# EAGLE library part I-02129_R8C_2AB (library Akizuki)
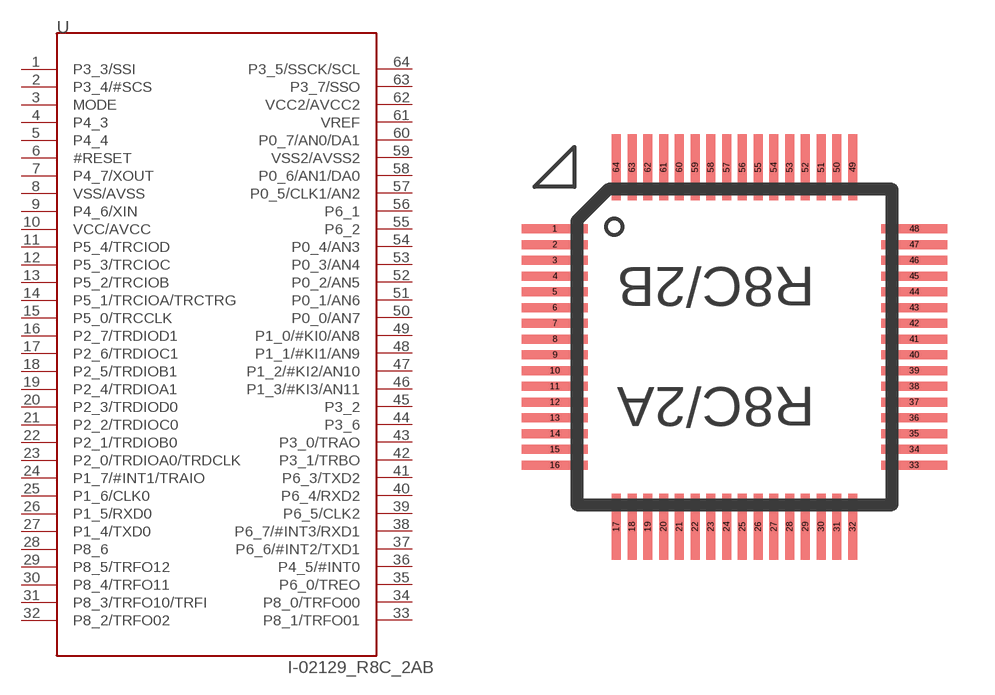
[diagram p14: symbol with the pads of LQFP64; footprint LQFP64]

Designator prefix U

## I-02129_R8C_2AB  [LQFP64]
1  P3_3/SSI
2  P3_4/#SCS
3  MODE
4  P4_3
5  P4_4
6  #RESET
7  P4_7/XOUT
8  VSS/AVSS
9  P4_6/XIN
10  VCC/AVCC
11  P5_4/TRCIOD
12  P5_3/TRCIOC
13  P5_2/TRCIOB
14  P5_1/TRCIOA/TRCTRG
15  P5_0/TRCCLK
16  P2_7/TRDIOD1
17  P2_6/TRDIOC1
18  P2_5/TRDIOB1
19  P2_4/TRDIOA1
20  P2_3/TRDIOD0
21  P2_2/TRDIOC0
22  P2_1/TRDIOB0
23  P2_0/TRDIOA0/TRDCLK
24  P1_7/#INT1/TRAIO
25  P1_6/CLK0
26  P1_5/RXD0
27  P1_4/TXD0
28  P8_6
29  P8_5/TRFO12
30  P8_4/TRFO11
31  P8_3/TRFO10/TRFI
32  P8_2/TRFO02
33  P8_1/TRFO01
34  P8_0/TRFO00
35  P6_0/TREO
36  P4_5/#INT0
37  P6_6/#INT2/TXD1
38  P6_7/#INT3/RXD1
39  P6_5/CLK2
40  P6_4/RXD2
41  P6_3/TXD2
42  P3_1/TRBO
43  P3_0/TRAO
44  P3_6
45  P3_2
46  P1_3/#KI3/AN11
47  P1_2/#KI2/AN10
48  P1_1/#KI1/AN9
49  P1_0/#KI0/AN8
50  P0_0/AN7
51  P0_1/AN6
52  P0_2/AN5
53  P0_3/AN4
54  P0_4/AN3
55  P6_2
56  P6_1
57  P0_5/CLK1/AN2
58  P0_6/AN1/DA0
59  VSS2/AVSS2
60  P0_7/AN0/DA1
61  VREF
62  VCC2/AVCC2
63  P3_7/SSO
64  P3_5/SSCK/SCL

## Footprint LQFP64 (pad centres in mm)
Plastic Low Profile Quad Flat Package
smd 2.1 x 0.285: 1 -5.7,3.75; 2 -5.7,3.25; 3 -5.7,2.75; 4 -5.7,2.25; 5 -5.7,1.75; 6 -5.7,1.25; 7 -5.7,0.75; 8 -5.7,0.25; 9 -5.7,-0.25; 10 -5.7,-0.75; 11 -5.7,-1.25; 12 -5.7,-1.75; 13 -5.7,-2.25; 14 -5.7,-2.75; 15 -5.7,-3.25; 16 -5.7,-3.75; 33 5.7,-3.75; 34 5.7,-3.25; 35 5.7,-2.75; 36 5.7,-2.25; 37 5.7,-1.75; 38 5.7,-1.25; 39 5.7,-0.75; 40 5.7,-0.25; 41 5.7,0.25; 42 5.7,0.75; 43 5.7,1.25; 44 5.7,1.75; 45 5.7,2.25; 46 5.7,2.75; 47 5.7,3.25; 48 5.7,3.75
smd 0.285 x 2.1: 17 -3.75,-5.7; 18 -3.25,-5.7; 19 -2.75,-5.7; 20 -2.25,-5.7; 21 -1.75,-5.7; 22 -1.25,-5.7; 23 -0.75,-5.7; 24 -0.25,-5.7; 25 0.25,-5.7; 26 0.75,-5.7; 27 1.25,-5.7; 28 1.75,-5.7; 29 2.25,-5.7; 30 2.75,-5.7; 31 3.25,-5.7; 32 3.75,-5.7; 49 3.75,5.7; 50 3.25,5.7; 51 2.75,5.7; 52 2.25,5.7; 53 1.75,5.7; 54 1.25,5.7; 55 0.75,5.7; 56 0.25,5.7; 57 -0.25,5.7; 58 -0.75,5.7; 59 -1.25,5.7; 60 -1.75,5.7; 61 -2.25,5.7; 62 -2.75,5.7; 63 -3.25,5.7; 64 -3.75,5.7